# EAGLE library part MSTBV_2,5/13-G (library con-phoenix-500)
Grundleiste - MSTBV 2,5/13-G - 1753657 Grundgehäuse, Nennstrom: 12 A Bemessungsspannung (III/2): 320 V Polzahl: 13 Rastermaß: 5 mm Farbe: grün Kontaktoberfläche: Zinn Montage: Löten
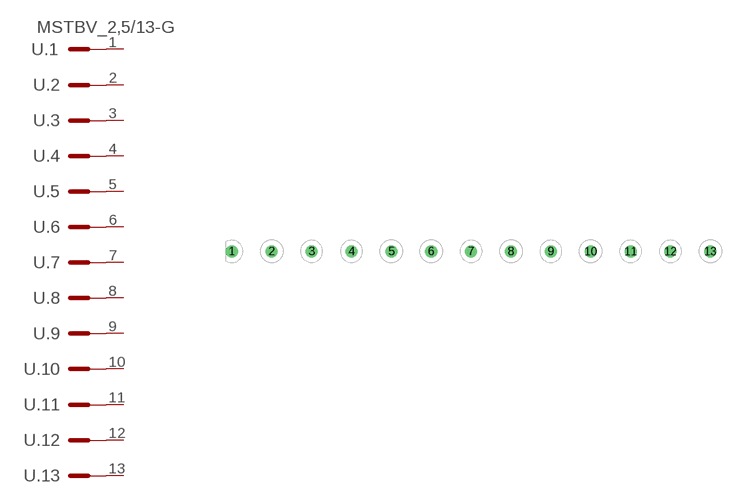
[diagram p2: symbol with the pads of MSTBV_2,5/13-G; footprint MSTBV_2,5/13-G]

Designator prefix -; gates .1=PIN+V .2=PIN .3=PIN .4=PIN .5=PIN .6=PIN .7=PIN .8=PIN .9=PIN .10=PIN .11=PIN .12=PIN .13=PIN

## MSTBV_2,5/13-G  [MSTBV_2,5/13-G]
1  .1:SK  pas
2  .2:SK  pas
3  .3:SK  pas
4  .4:SK  pas
5  .5:SK  pas
6  .6:SK  pas
7  .7:SK  pas
8  .8:SK  pas
9  .9:SK  pas
10  .10:SK  pas
11  .11:SK  pas
12  .12:SK  pas
13  .13:SK  pas

## Footprint MSTBV_2,5/13-G (pad centres in mm)
Grundleiste - MSTBV 2,5/13-G - 1753657 Grundgehäuse, Nennstrom: 12 A Bemessungsspannung (III/2): 320 V Polzahl: 13 Rastermaß: 5 mm Farbe: grün Kontaktoberfläche: Zinn Montage: Löten
drill 1 pad 1.422: 1 -30,0; 2 -25,0; 3 -20,0; 4 -15,0; 5 -10,0; 6 -5,0; 7 0,0; 8 5,0; 9 10,0; 10 15,0; 11 20,0; 12 25,0; 13 30,0